# EAGLE library part 74HC32 (library Bauteile)
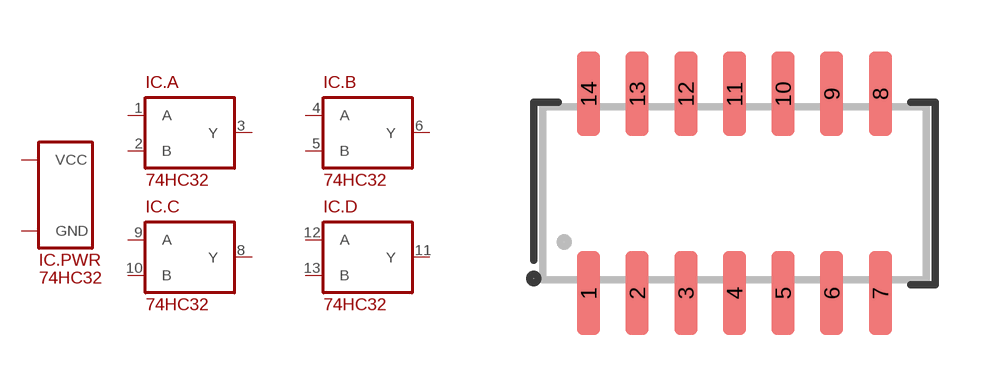
[diagram p28: symbol with the pads of SOP14; footprint SOP14]

Designator prefix IC; gates .PWR=SUPPLY_VCC/GND .A=OR_2 .B=OR_2 .C=OR_2 .D=OR_2

## 74HC32  [SOP14]
1  .A:A
2  .A:B
3  .A:Y
4  .B:A
5  .B:B
6  .B:Y
7  .PWR:GND
8  .C:Y
9  .C:A
10  .C:B
11  .D:Y
12  .D:A
13  .D:B
14  .PWR:VCC

## Footprint SOP14 (pad centres in mm)
smd 0.6 x 2.2: 1 -3.81,-2.6; 2 -2.54,-2.6; 3 -1.27,-2.6; 4 0,-2.6; 5 1.27,-2.6; 6 2.54,-2.6; 7 3.81,-2.6; 8 3.81,2.6; 9 2.54,2.6; 10 1.27,2.6; 11 0,2.6; 12 -1.27,2.6; 13 -2.54,2.6; 14 -3.81,2.6